# Altium footprint library First32.PcbLib: 19 footprints (part 1 of 2)
Each footprint in its own frame and in the unit in brackets; x right, y up, seen from the top. Pads: shape width x height; smd on the part's side, far side on the other; paste and mask are expansions set on the pad; w line width, h text height; cw(c..) or ccw(c..) is an arc to the next point about the centre after c.
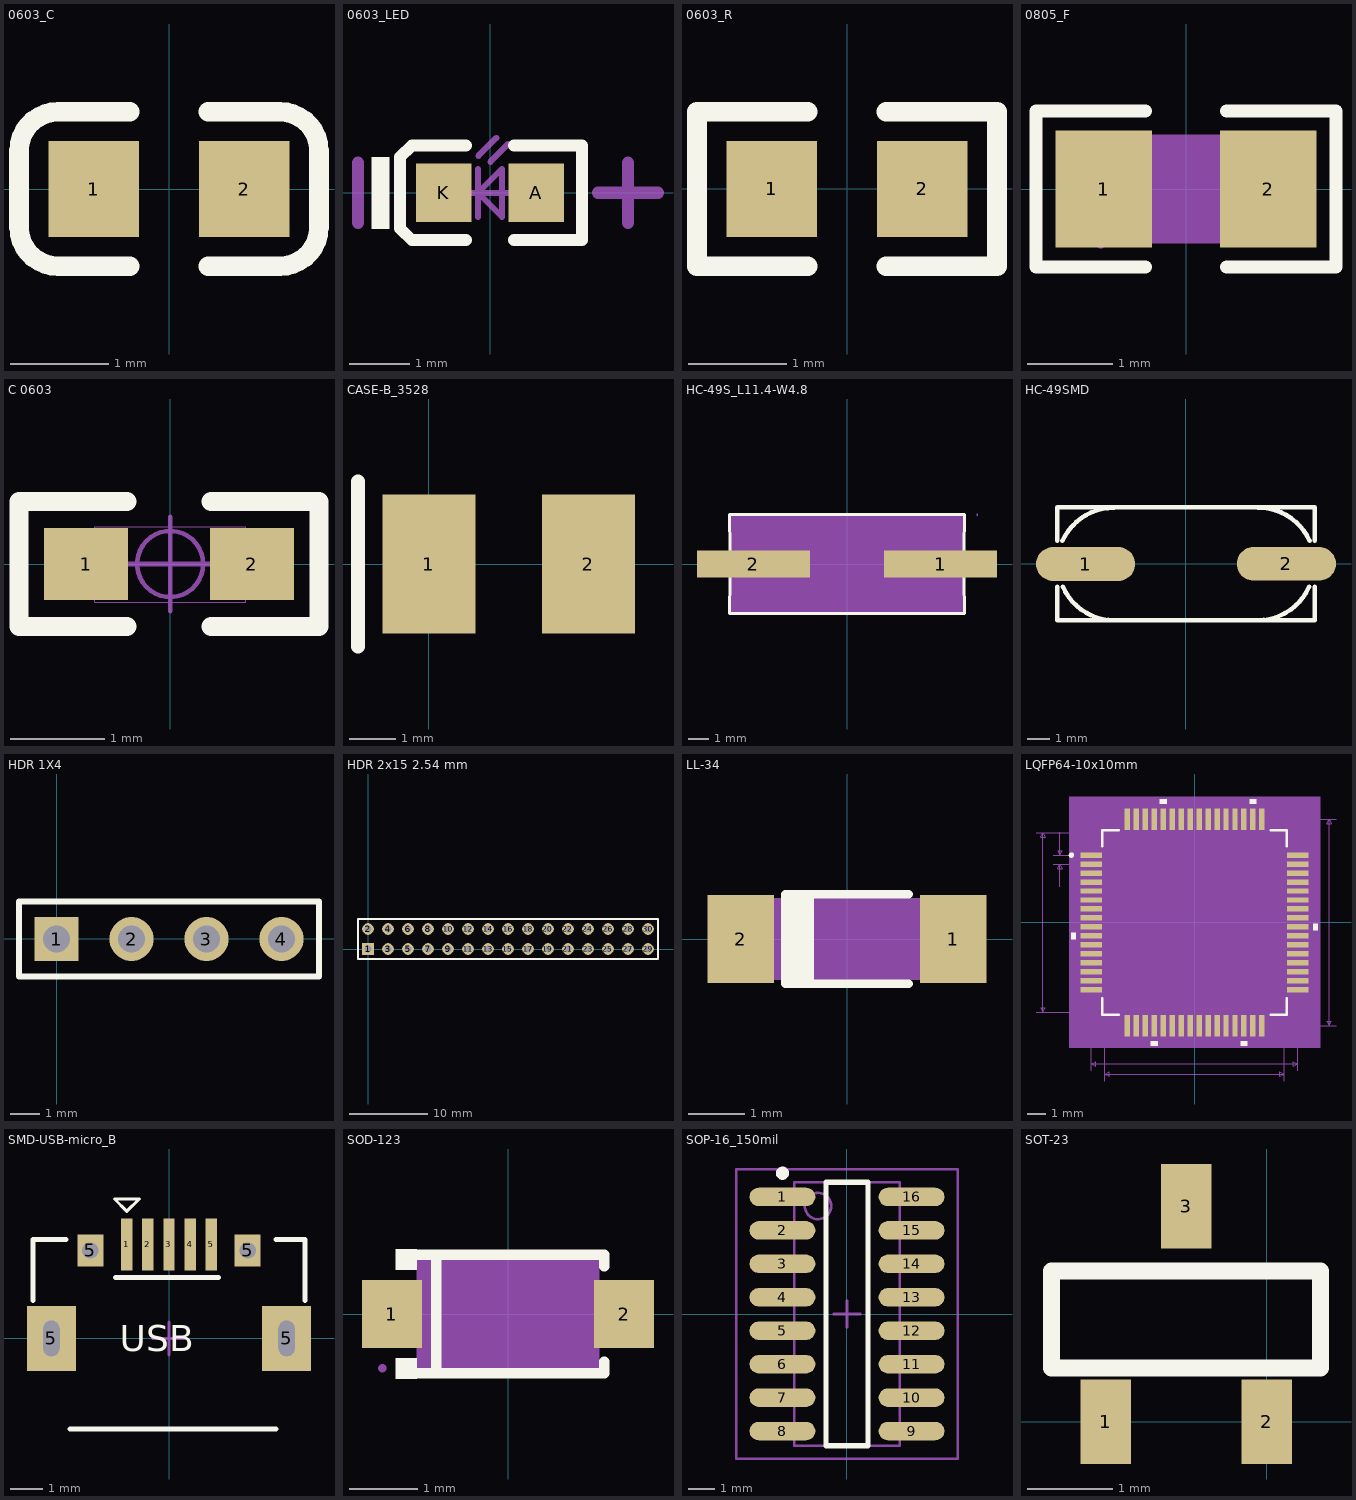
[diagram p0: the footprints below, top view; thin cyan lines are the x and y axes]

## 0603_C [mm]
height 1
pads (2):
  rect 0.93x0.98 smd: 1(-0.77,0) 2(0.77,0)
Top Overlay:
  lines w0.2: -0.4,-0.79 -1.135,-0.79 cw(c-1.135,-0.39) -1.535,-0.39 -1.535,0.39 cw(c-1.135,0.39) -1.135,0.79 -0.4,0.79 ; 0.4,-0.79 1.135,-0.79 ccw(c1.135,-0.39) 1.535,-0.39 1.535,0.39 ccw(c1.135,0.39) 1.135,0.79 0.4,0.79
3D body "User Library-0603 SMD Capacitor.STEP": height 0.3, standoff 0, extent -0.8,-0.4 0.8,0.4

## 0603_LED [mm]
height 1
pads (2):
  rect 0.93x0.98 smd: A(0.77,0) K(-0.77,0)
Top Overlay:
  rectangle: -1.975,-0.6 -1.675,0.6
  lines w0.2: -0.4,-0.79 -1.3,-0.79 -1.5,-0.597 -1.5,0.597 -1.3,0.79 -0.4,0.79 ; 0.4,-0.79 1.535,-0.79 1.535,0.79 0.4,0.79
Mechanical 13:
  lines w0.1: -0.4,0 0.4,0 ; -0.2,-0.4 -0.2,0.4 ; -0.195,0.617 0.105,0.917 ; 0.005,0.517 0.305,0.817 ; -0.2,0 0.2,-0.4 0.2,0.4 -0.2,0
Mechanical 15:
  lines w0.203: -2.2,-0.5 -2.2,0.5 ; 1.8,0 2.8,0 ; 2.3,-0.5 2.3,0.5
3D body "User Library-LED_0603_R.STEP": height 0.6, standoff 0, extent -0.8,-0.4 0.8,0.4

## 0603_R [mm]
height 1
pads (2):
  rect 0.93x0.98 smd: 1(-0.77,0) 2(0.77,0)
Top Overlay:
  lines w0.2: -0.4,-0.79 -1.535,-0.79 -1.535,0.79 -0.4,0.79 ; 0.4,-0.79 1.535,-0.79 1.535,0.79 0.4,0.79
3D body "User Library-RES_1609-0603.STEP": height 0.56, standoff 0, extent -0.85,-0.4 0.85,0.4

## 0805_F [mm]
pads (2):
  rect 1.133x1.377 smd: 1(-0.966,0) 2(0.966,0)
Top Overlay:
  lines w0.152: -0.476,-0.917 -1.761,-0.917 -1.761,0.917 -0.476,0.917 ; 0.476,-0.917 1.761,-0.917 1.761,0.917 0.476,0.917
Top Paste:
  region: -1.7,-0.64 -1.7,0.64 -1.65,0.69 -0.5,0.69 -0.45,0.64 -0.445,0.23 -0.895,0.23 -0.895,-0.22 -0.455,-0.22 -0.45,-0.64 -0.5,-0.69 -1.65,-0.69
  region: 0.45,-0.64 0.45,-0.22 0.895,-0.22 0.895,0.23 0.455,0.23 0.45,0.64 0.5,0.69 1.65,0.69 1.7,0.64 1.7,-0.64 1.65,-0.69 0.5,-0.69
Mechanical 4:
  region: -1,-0.637 -1,0.637 1,0.637 1,-0.637
Mechanical 5:
  region: -1,-0.637 -1,0.637 -0.6,0.637 -0.6,-0.637
  region: 1,-0.637 1,0.637 0.6,0.637 0.6,-0.637
Mechanical 6:
  circle w0.06: c-1,-0.638 r0.03
3D body "mf-psmf050x-2.stp": height 0.66, standoff 0, extent -1.075,-0.675 1.075,0.675

## C 0603 [mil] "无极性贴片电容"
pads (2):
  rect 35x30 smd: 1(-35,0) 2(34,0)
Top Overlay:
  lines w8: -18,-26 -63,-26 -63,26 -18,26 ; 17,-26 62,-26 62,26 17,26
Mechanical 13:
  lines w0.39: -31.5,-16 -31.5,15.5 31.5,15.5 31.5,-16 -31.5,-16
Mechanical 15:
  circle w1.97: c0,0 r13.78
  lines w1.97: -19.68,0 19.68,0 ; 0,-19.68 0,19.68
3D body "C 0603.STEP": height 31.89, standoff -0.39, extent -31.5,-16.14 31.5,16.14

## CASE-B_3528 [mm]
pads (2):
  rect 2x3 smd: 1(0,0) 2(3.429,0)
Top Overlay:
  lines w0.305: -1.524,-1.778 -1.524,1.778
3D body "TAJB_AVX.step": height 2.16, standoff 0, extent -0.203,-1.499 3.505,1.499

## HC-49S_L11.4-W4.8 [mm]
pads (2):
  rect 5.5x1.3 smd: 1(4.553,0) 2(-4.553,0)
Top Overlay:
  lines w0.152: -5.715,-2.413 5.715,-2.413 ; -5.715,-2.413 -5.7,-0.662 -5.715,-2.413 ; -5.715,-2.413 5.715,-2.413 ; -5.715,2.413 -5.7,0.662 -5.715,2.413 ; -5.715,2.413 5.715,2.413 ; -5.715,2.413 5.715,2.413 ; 5.715,-2.413 5.7,-0.662 5.715,-2.413 ; 5.715,2.413 5.7,0.662 5.715,2.413
Mechanical 4:
  region: -5.7,-2.4 -5.7,2.4 5.7,2.4 5.7,-2.4
Mechanical 5:
  region: -6.34,0.4 -1.84,0.4 -1.84,-0.4 -6.34,-0.4
  region: 1.84,0.4 6.34,0.4 6.34,-0.4 1.84,-0.4
Mechanical 6:
  circle w0.06: c6.34,2.4 r0.03

## HC-49SMD [mm]
height 14.8
pads (2):
  oval 4.4x1.5 smd: 1(-4.45,-0.004) 2(4.45,0.004)
Top Overlay:
  lines w0.2: -5.7,-2.499 5.718,-2.499 ; -5.7,-2.496 -5.7,-1.016 ; -5.7,1.016 -5.7,2.504 5.718,2.504 5.718,1.016 ; -5.477,1.023 cw(c-3.202,-0.013) -3.175,2.487 ; -5.461,-1.016 ccw(c-3.176,-0.001) -3.176,-2.501 ; 3.175,-2.5 ccw(c3.175,0) 5.46,-1.015 ; 3.175,2.496 cw(c3.202,-0.004) 5.48,1.025 ; 5.718,-2.496 5.718,-1.016
3D body "User Library-HC49-SMD.SLDPRT": height 4.22, standoff 0, extent -7.5,-2.25 7.5,2.25

## HDR 1X4 [mm] "Connector; Header; 4 Position"
height 2.54
pads (4):
  rect 1.5x1.5 hole 0.9: 1(0,0)
  round 1.5 hole 0.9: 2(2.54,0) 3(5.08,0) 4(7.62,0)
Top Overlay:
  lines w0.2: -1.27,-1.27 -1.27,1.27 8.89,1.27 8.89,-1.27 -1.27,-1.27
3D body "87k2231_3-644456-4.stp": height 10.03, standoff -2.79, extent -1.12,-1.168 8.74,1.169

## HDR 2x15 2.54 mm [mm]
pads (30):
  rect 1.5x1.5 hole 0.9: 1(0,0)
  round 1.5 hole 0.9: 2(0,2.54) 3(2.54,0) 4(2.54,2.54) 5(5.08,0) 6(5.08,2.54) 7(7.62,0) 8(7.62,2.54) 9(10.16,0) 10(10.16,2.54) 11(12.7,0) 12(12.7,2.54) 13(15.24,0) 14(15.24,2.54) 15(17.78,0) 16(17.78,2.54) 17(20.32,0) 18(20.32,2.54) 19(22.86,0) 20(22.86,2.54) 21(25.4,0) 22(25.4,2.54) 23(27.94,0) 24(27.94,2.54) 25(30.48,0) 26(30.48,2.54) 27(33.02,0) 28(33.02,2.54) 29(35.56,0) 30(35.56,2.54)
Top Overlay:
  lines w0.2: -1.27,-1.27 -1.27,3.81 36.83,3.81 36.83,-1.27 -1.27,-1.27
3D body "61303021121.stp": height 8.54, standoff -3, extent -1.27,-1.27 36.83,3.81

## LL-34 [mm]
pads (2):
  rect 1.185x1.566 smd: 1(1.893,0) 2(-1.893,0)
Top Overlay:
  region: -1.097,0.776 -0.589,0.776 -0.589,-0.776 -1.097,-0.776
  lines w0.152: 1.097,-0.801 -1.097,-0.801 -1.097,0.801 1.097,0.801
Mechanical 4:
  region: -1.75,-0.725 -1.75,0.725 1.75,0.725 1.75,-0.725
Mechanical 5:
  region: 1.75,-0.725 1.75,0.725 1.45,0.725 1.45,-0.725
  region: -1.75,-0.725 -1.75,0.725 -1.45,0.725 -1.45,-0.725
Mechanical 6:
  circle w0.06: c-1.75,-0.725 r0.03
Mechanical 15:
  region: 1.315,-0.58 1.315,0.58 1.141,0.58 1.141,-0.58
  region: 1.576,-0.087 1.576,0.087 0.88,0.087 0.88,-0.087
  region: -1.576,-0.087 -1.576,0.087 -0.88,0.087 -0.88,-0.087
3D body "User Library-MiniMelf-2.SLDPRT": height 1.59, standoff 0, extent -1.88,-0.798 1.82,0.798

## LQFP64-10x10mm [mm]
pads (64):
  rect 1.194x0.305 smd paste+0 mask+0: 1(-5.75,3.75) 2(-5.75,3.25) 3(-5.75,2.75) 4(-5.75,2.25) 5(-5.75,1.75) 6(-5.75,1.25) 7(-5.75,0.75) 8(-5.75,0.25) 9(-5.75,-0.25) 10(-5.75,-0.75) 11(-5.75,-1.25) 12(-5.75,-1.75) 13(-5.75,-2.25) 14(-5.75,-2.75) 15(-5.75,-3.25) 16(-5.75,-3.75) 33(5.75,-3.75) 34(5.75,-3.25) 35(5.75,-2.75) 36(5.75,-2.25) 37(5.75,-1.75) 38(5.75,-1.25) 39(5.75,-0.75) 40(5.75,-0.25) 41(5.75,0.25) 42(5.75,0.75) 43(5.75,1.25) 44(5.75,1.75) 45(5.75,2.25) 46(5.75,2.75) 47(5.75,3.25) 48(5.75,3.75)
  rect 0.305x1.194 smd paste+0 mask+0: 17(-3.75,-5.75) 18(-3.25,-5.75) 19(-2.75,-5.75) 20(-2.25,-5.75) 21(-1.75,-5.75) 22(-1.25,-5.75) 23(-0.75,-5.75) 24(-0.25,-5.75) 25(0.25,-5.75) 26(0.75,-5.75) 27(1.25,-5.75) 28(1.75,-5.75) 29(2.25,-5.75) 30(2.75,-5.75) 31(3.25,-5.75) 32(3.75,-5.75) 49(3.75,5.75) 50(3.25,5.75) 51(2.75,5.75) 52(2.25,5.75) 53(1.75,5.75) 54(1.25,5.75) 55(0.75,5.75) 56(0.25,5.75) 57(-0.25,5.75) 58(-0.75,5.75) 59(-1.25,5.75) 60(-1.75,5.75) 61(-2.25,5.75) 62(-2.75,5.75) 63(-3.25,5.75) 64(-3.75,5.75)
Top Overlay:
  circle w0.152: c-6.851,3.75 r0.076
  region: -1.559,6.601 -1.94,6.601 -1.94,6.855 -1.559,6.855
  region: 3.441,6.601 3.06,6.601 3.06,6.855 3.441,6.855
  region: 6.601,-0.059 6.855,-0.059 6.855,-0.44 6.601,-0.44
  region: 2.94,-6.601 2.559,-6.601 2.559,-6.855 2.94,-6.855
  region: -2.06,-6.601 -2.441,-6.601 -2.441,-6.855 -2.06,-6.855
  region: -6.601,-0.56 -6.855,-0.56 -6.855,-0.941 -6.601,-0.941
  lines w0.152: -5.131,-4.234 -5.131,-5.131 -4.234,-5.131 ; -5.131,4.234 -5.131,5.131 -4.234,5.131 ; 4.234,-5.131 5.131,-5.131 5.131,-4.234 ; 4.234,5.131 5.131,5.131 5.131,4.234
Mechanical 5:
  region: 6.982,-6.982 -6.982,-6.982 -6.982,6.982 6.982,6.982
Mechanical 7:
  lines w0.025: -8.823,-5.004 -3.75,-5.004 ; -8.823,5.004 -3.75,5.004 ; -7.871,3.25 -5.75,3.25 ; -7.871,3.75 -5.75,3.75 ; -7.49,1.98 -7.49,3.25 ; -7.49,5.02 -7.49,3.75 ; -5.75,-8.252 -5.75,-3.445 ; -5.004,-8.823 -5.004,-3.75 ; 4.055,-5.75 7.871,-5.75 ; 4.055,5.75 7.871,5.75 ; 5.004,-8.823 5.004,-3.75 ; 5.75,-8.252 5.75,-3.445 ; -8.442,-5.004 -8.315,-4.75 -8.569,-4.75 -8.442,-5.004 ; -8.442,-5.004 -8.442,5.004 ; -8.442,5.004 -8.315,4.75 -8.569,4.75 -8.442,5.004 ; -7.49,3.25 -7.363,2.996 -7.617,2.996 -7.49,3.25 ; -7.49,3.75 -7.363,4.004 -7.617,4.004 -7.49,3.75 ; -5.75,-7.871 -5.496,-7.998 -5.496,-7.744 -5.75,-7.871 ; -5.75,-7.871 5.75,-7.871 ; -5.004,-8.442 -4.75,-8.569 -4.75,-8.315 -5.004,-8.442 ; -5.004,-8.442 5.004,-8.442 ; 5.004,-8.442 4.75,-8.569 4.75,-8.315 5.004,-8.442 ; 5.75,-7.871 5.496,-7.998 5.496,-7.744 5.75,-7.871 ; 7.49,-5.75 7.617,-5.496 7.363,-5.496 7.49,-5.75 ; 7.49,-5.75 7.49,5.75 ; 7.49,5.75 7.617,5.496 7.363,5.496 7.49,5.75
  text "0.394in/10.008mm" at -14.03,-0.318 h0.64
  text "0.394in/10.008mm" at -2.54,-9.585 h0.64
  text "0.453in/11.5mm" at -2.222,-9.014 h0.64
  text "0.453in/11.5mm" at 7.998,-0.318 h0.64
  text "0.02in/0.5mm" at -11.808,3.183 h0.64
  text "Alt 2 Padstyle: OX90Y60D30P" at -8.572,-19.047 h1.27
  text "Alt 1 Padstyle: OX60Y90D30P" at -8.572,-17.523 h1.27
  text "Default Padstyle: RX47Y12D0T" at -8.89,-12.951 h1.27
Mechanical 13:
  circle w0: c-4.518,3.75 r0.076
  lines w0.025: -5.004,3.734 -3.734,5.004 ; -5.004,-5.004 -5.004,5.004 5.004,5.004 5.004,-5.004 -5.004,-5.004
Mechanical 15:
  region: -4.258,-5.258 -5.258,-5.258 -5.258,-4.258 -6.855,-4.258 -6.855,4.258 -5.258,4.258 -5.258,5.258 -4.258,5.258 -4.258,6.855 4.258,6.855 4.258,5.258 5.258,5.258 5.258,4.258 6.855,4.258 6.855,-4.258 5.258,-4.258 5.258,-5.258 4.258,-5.258 4.258,-6.855 -4.258,-6.855
  lines w0.152: -6.855,-4.258 -6.855,4.258 -5.258,4.258 -5.258,5.258 -4.258,5.258 -4.258,6.855 4.258,6.855 4.258,5.258 5.258,5.258 5.258,4.258 6.855,4.258 6.855,-4.258 5.258,-4.258 5.258,-5.258 4.258,-5.258 4.258,-6.855 -4.258,-6.855 -4.258,-5.258 -5.258,-5.258 -5.258,-4.258 -6.855,-4.258
3D body "LQFP64-10x10mm.step": height 1.6, standoff 0, extent -5.997,-5.997 5.997,5.997
3D body: height 0.25, standoff 0, extent 0,0 0.254,0.254

## SMD-USB-micro_B [mm] "micro型USB ，5.7*7.8*2.5mm"
pads (9):
  rect 0.35x1.6 smd: 1(-1.3,2.9) 2(-0.65,2.9) 3(0,2.9) 4(0.65,2.9) 5(1.3,2.9)
  rect 1.5x2 hole 0.5 slot 1.1 at 90 deg: 5(-3.625,0) 5(3.625,0)
  rect 0.8x1 hole 0.5: 5(-2.425,2.71) 5(2.425,2.71)
Top Overlay:
  lines w0.1: -1.681,4.297 -0.919,4.297 -1.3,3.916 -1.681,4.297
  lines w0.152: -4.191,1.168 -4.191,3.048 -3.175,3.048 ; -3.048,-2.794 3.302,-2.794 ; -1.65,1.875 1.525,1.875 ; 3.302,3.048 4.191,3.048 4.191,1.168
  text "USB" at -1.524,-0.402 h0.81
Mechanical 15:
  lines w0.1: -0.508,0 0.508,0 ; 0,-0.508 0,0.508
3D body "USB micro_A.STEP": height 2.8, standoff -0.95, extent -4.001,-2.71 4.001,2.89

## SOD-123 [mm]
pads (2):
  rect 0.88x0.99 smd: 1(-1.693,0) 2(1.693,0)
Top Overlay:
  region: -1.33,0.942 -1.33,0.647 -1.635,0.647 -1.635,0.942
  region: -1.33,-0.942 -1.33,-0.647 -1.635,-0.647 -1.635,-0.942
  lines w0.152: -1.406,-0.866 1.406,-0.866 1.406,-0.698 ; -1.406,0.866 1.406,0.866 1.406,0.698 ; -1.049,-0.866 -1.049,0.866
Mechanical 4:
  region: -1.33,-0.79 -1.33,0.79 1.33,0.79 1.33,-0.79
Mechanical 5:
  region: -1.833,-0.465 -1.833,0.465 -1.282,0.465 -1.282,-0.465
  region: 1.833,-0.465 1.833,0.465 1.282,0.465 1.282,-0.465
Mechanical 6:
  circle w0.06: c-1.833,-0.79 r0.03
Mechanical 15:
  region: -1.14,0.095 -1.14,-0.095 -0.382,-0.095 -0.382,0.095
  region: 1.14,0.095 1.14,-0.095 0.382,-0.095 0.382,0.095
  region: 0.856,0.632 0.856,-0.632 0.666,-0.632 0.666,0.632
3D body "SOD-323_1P8X1P35_ONS.step": height 0.99, standoff 0, extent -1.346,-0.673 1.346,0.673

## SOP-16_150mil [mm] "SOIC, 16-Leads, Body 9.9x3.9mm, Pitch 1.27mm, IPC Low Density"
height 1.75
pads (16):
  oval 2.5x0.7 smd: 1(-2.45,4.445) 2(-2.45,3.175) 3(-2.45,1.905) 4(-2.45,0.635) 5(-2.45,-0.635) 6(-2.45,-1.905) 7(-2.45,-3.175) 8(-2.45,-4.445) 9(2.45,-4.445) 10(2.45,-3.175) 11(2.45,-1.905) 12(2.45,-0.635) 13(2.45,0.635) 14(2.45,1.905) 15(2.45,3.175) 16(2.45,4.445)
Top Overlay:
  circle w0.25: c-2.45,5.345 r0.125
  lines w0.2: -0.8,-5 -0.8,5 0.8,5 0.8,-5 -0.8,-5
Mechanical 13:
  circle w0.1: c-1.1,4.1 r0.5
  lines w0.1: -2,-5 -2,5 2,5 2,-5 -2,-5
Mechanical 15:
  lines w0.1: -0.5,0 0.5,0 ; 0,-0.5 0,0.5 ; -4.2,-5.5 -4.2,5.5 4.2,5.5 4.2,-5.5 -4.2,-5.5
3D body: height 1.75, standoff 0, extent -2,-5 2,5

## SOT-23 [mm] "1,3,2脚序，适合TL431等"
height 1
pads (3):
  rect 0.6x1 smd: 1(-1.9,0) 2(0,0) 3(-0.95,2.54)
Top Overlay:
  lines w0.2: -2.54,0.635 0.635,0.635 0.635,1.778 -2.54,1.778 -2.54,0.635
3D body "ALSRobot-SOT23.SLDPRT": height 1.08, standoff 0, extent -2.389,-0.05 0.611,2.59